# Altium footprint library IRLEDFOOTPRINT.PcbLib: 1 footprints
Each footprint in its own frame and in the unit in brackets; x right, y up, seen from the top. Pads: shape width x height; smd on the part's side, far side on the other; paste and mask are expansions set on the pad; w line width, h text height; cw(c..) or ccw(c..) is an arc to the next point about the centre after c.
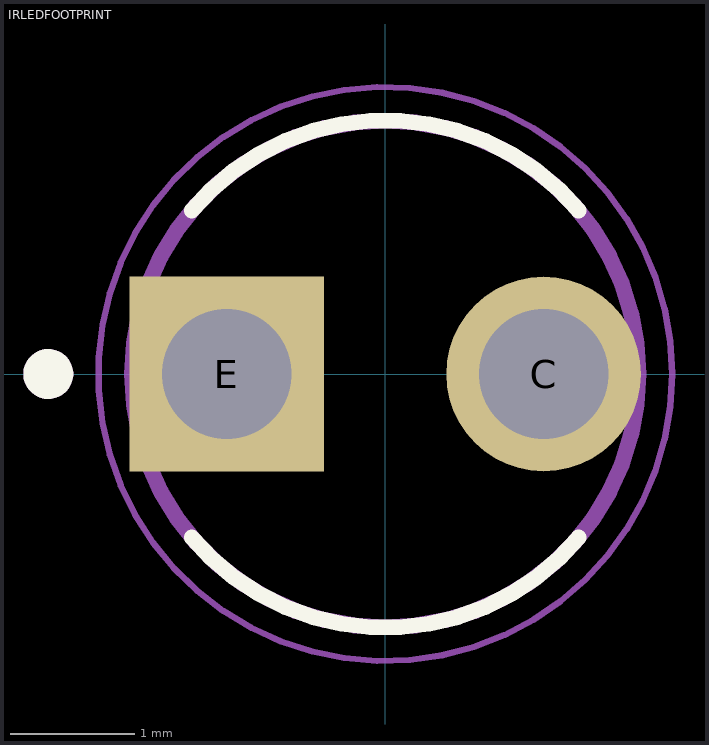
[diagram p0: the footprint, top view; thin cyan lines are the x and y axes]

## IRLEDFOOTPRINT [mm]
pads (2):
  round 1.56 hole 1.04: C(1.27,0)
  rect 1.56x1.56 hole 1.04: E(-1.27,0)
Top Overlay:
  circle w0.2: c-2.7,0 r0.1
  lines w0.127: -1.55,-1.31 ccw(c0,-0.009) 1.55,-1.31 ; -1.55,1.31 cw(c0,0.009) 1.55,1.31
Mechanical 13:
  circle w0.2: c-2.7,0 r0.1
  circle w0.127: c0,0 r2.03
Mechanical 15:
  circle w0.05: c0,0 r2.3
3D body "151031VS06000.STEP": height 5.66, standoff -26.29, extent -1.645,-1.925 1.911,1.925